# EAGLE library part BS25022 (library D21_v39)
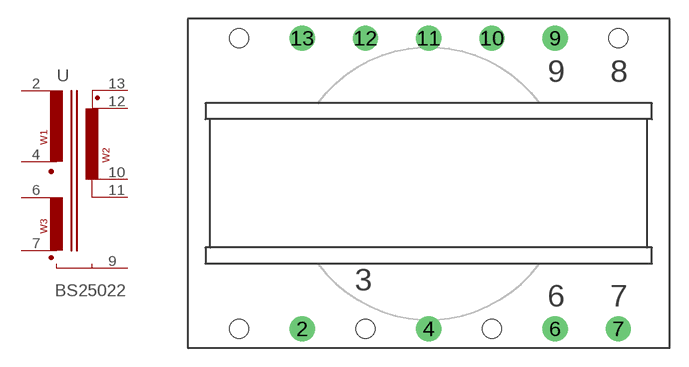
[diagram p1: symbol with the pads of BS25022; footprint BS25022]

Designator prefix -

## BS25022  [BS25022]
2  2  pas
4  4  pas
6  6  pas
7  7  pas
9  9  pas
10  10  pas
11  11  pas
12  12  pas
13  13  pas

## Footprint BS25022 (pad centres in mm)
TRANSFORMER
drill 1.321: 2 -10,-11.5; 4 0,-11.5; 6 10,-11.5; 7 15,-11.5; 9 10,11.5; 10 5,11.5; 11 0,11.5; 12 -5,11.5; 13 -10,11.5
hole 1.5 at -15,-11.5
hole 1.5 at -5,-11.5
hole 1.5 at 5,-11.5
hole 1.5 at 15,11.5
hole 1.5 at -15,11.5